# EAGLE library part FEATHER (library APU_Motherboard_Library)
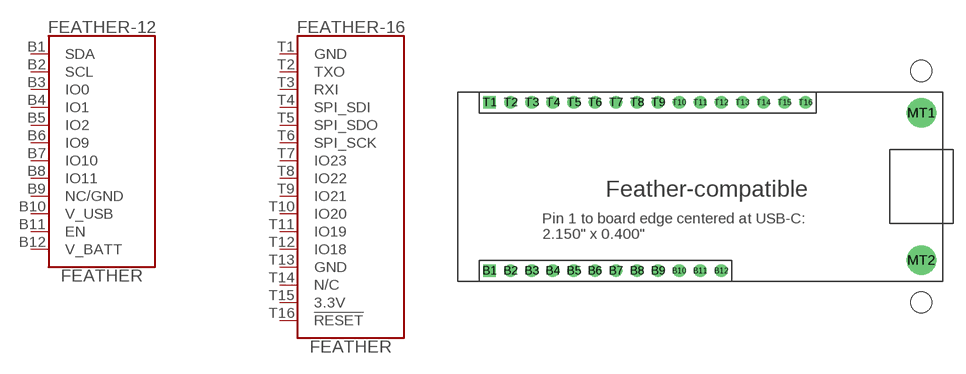
[diagram p2: symbol with the pads of FEATHER; footprint FEATHER]

Designator prefix FEATHER; gates -12=REDV-12P -16=REDV-16P

## FEATHER  [FEATHER]
B1  -12:SDA
B2  -12:SCL
B3  -12:IO0
B4  -12:IO1
B5  -12:IO2
B6  -12:IO9
B7  -12:IO10
B8  -12:IO11
B9  -12:NC/GND
B10  -12:V_USB
B11  -12:EN
B12  -12:V_BATT
T1  -16:GND
T2  -16:TXO
T3  -16:RXI
T4  -16:SPI_SDI
T5  -16:SPI_SDO
T6  -16:SPI_SCK
T7  -16:IO23
T8  -16:IO22
T9  -16:IO21
T10  -16:IO20
T11  -16:IO19
T12  -16:IO18
T13  -16:GND
T14  -16:N/C
T15  -16:3.3V
T16  -16:!RESET

## Footprint FEATHER (pad centres in mm)
drill 1.02 pad 1.37 square: B1 0,0; T1 0,20.32
drill 1.02 pad 1.37: B2 2.54,0; B3 5.08,0; B4 7.62,0; B5 10.16,0; B6 12.7,0; B7 15.24,0; B8 17.78,0; B9 20.32,0; B10 22.86,0; B11 25.4,0; B12 27.94,0; T2 2.54,20.32; T3 5.08,20.32; T4 7.62,20.32; T5 10.16,20.32; T6 12.7,20.32; T7 15.24,20.32; T8 17.78,20.32; T9 20.32,20.32; T10 22.86,20.32; T11 25.4,20.32; T12 27.94,20.32; T13 30.48,20.32; T14 33.02,20.32; T15 35.56,20.32; T16 38.1,20.32
drill 2.54: MT1 52.07,19.05; MT2 52.07,1.27
hole 2.54 at 52.07,24.13
hole 2.54 at 52.07,-3.81